# Altium footprint library PCB库.PcbLib: 1 footprints
Each footprint in its own frame and in the unit in brackets; x right, y up, seen from the top. Pads: shape width x height; smd on the part's side, far side on the other; paste and mask are expansions set on the pad; w line width, h text height; cw(c..) or ccw(c..) is an arc to the next point about the centre after c.
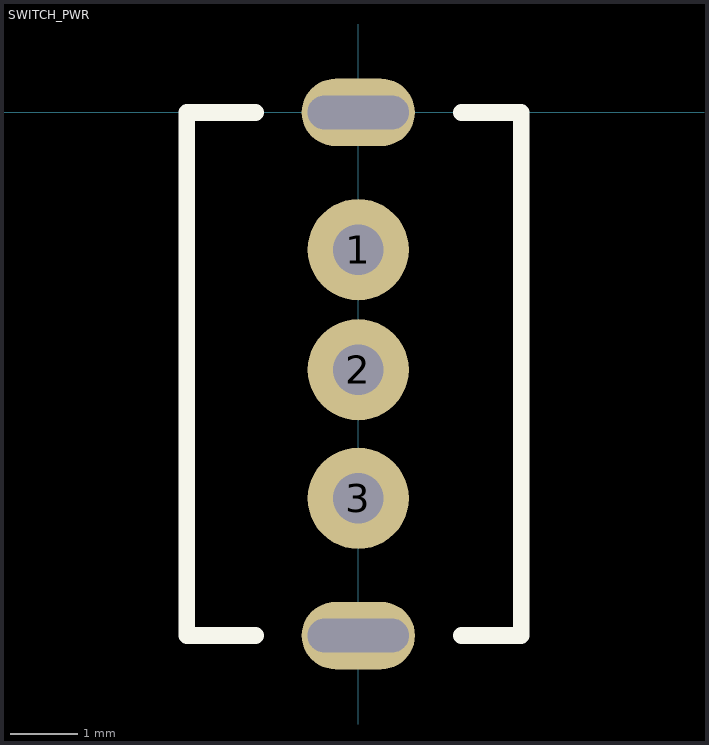
[diagram p0: the footprint, top view; thin cyan lines are the x and y axes]

## SWITCH_PWR [mm]
height 5
pads (5):
  round 1.5 hole 0.75: 1(0,-2.032) 2(0,-3.81) 3(0,-5.715)
  oval 1.676x1 hole 0.5 slot 1.5 at 0 deg: ""(0,0) ""(0,-7.747)
Top Overlay:
  lines w0.25: -1.524,-7.747 -2.54,-7.747 -2.54,0 -1.524,0 ; 1.524,-7.747 2.413,-7.747 2.413,0 1.524,0
3D body "3.681.STEP": height 6.5, standoff -5, extent -1.85,-8.06 1.85,0.44